# Altium schematic symbol library MCP73831.Schlib: 1 symbol
Pins are listed as number, name and electrical type; pins without a type are passive.

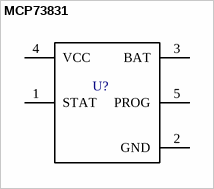
[diagram p0: symbol MCP73831]

## MCP73831
designator U?  (value not drawn)
Single Cell Li-Ion Batt Charger, MCP73831
pins: 1 STAT, 2 GND, 3 BAT, 4 VCC, 5 PROG